# Altium schematic symbol library Components - 25.10.25 - 14.33.SchLib: 1 symbol
Pins are listed as number, name and electrical type; pins without a type are passive.

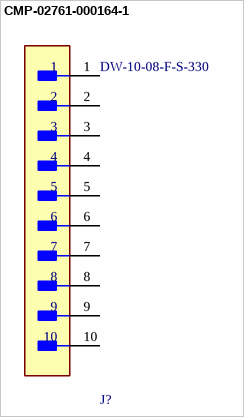
[diagram p0: symbol CMP-02761-000164-1]

## CMP-02761-000164-1
designator J?, comment DW-10-08-F-S-330
10 Position Header Spacer Connector 0.100" (2.54mm) Gold Through Hole
footprint FP-DW-10-08-F-S-330-MFG
pins: 1, 2, 3, 4, 5, 6, 7, 8, 9, 10